# Altium schematic symbol library CP2104.SchLib: 1 symbol
Pins are listed as number, name and electrical type; pins without a type are passive.

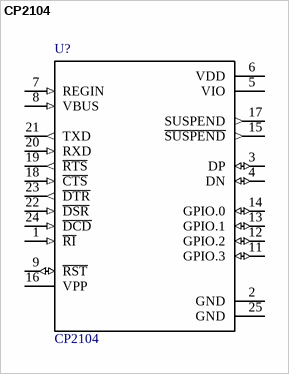
[diagram p0: symbol CP2104]

## CP2104
designator U?
USB to UART Bridge; MF: Silicon Labs; Price: None; MP: CP2104; SnapEDA_Link: https://www.snapeda.com/parts/CP2104/Silicon%20Labs/view-part/?ref=snap; Package: QFN-24 Silicon Labs; Availability: Unavailable; Value: *
footprint *QFN50P400X400X80-25N
pins: 1 ~{RI} (in), 2 GND (power), 3 DP (io), 4 DN (io), 5 VIO (power), 6 VDD (power), 7 REGIN (in), 8 VBUS (in), 9 ~{RST} (io), 11 GPIO.3 (io), 12 GPIO.2 (io), 13 GPIO.1 (io), 14 GPIO.0 (io), 15 ~{SUSPEND} (out), 16 VPP, 17 SUSPEND (out), 18 ~{CTS} (in), 19 ~{RTS} (out), 20 RXD (in), 21 TXD (out), 22 ~{DSR} (in), 23 ~{DTR} (out), 24 ~{DCD} (in), 25 GND (power)